# EAGLE library part BME280 (library KwanSystems)
Environment Sensor Measures temperature, absolute pressure, and relative humidity
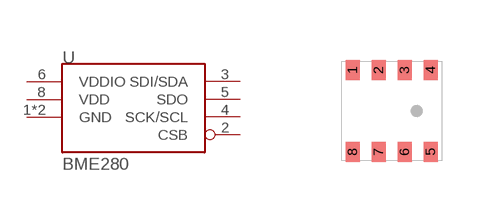
[diagram p48: symbol with the pads of BME280; footprint BME280]

Designator prefix -

## BME280  [BME280]
1  GND  pwr
2  CSB  in
3  SDI/SDA
4  SCK/SCL  in
5  SDO
6  VDDIO  pwr
7  GND  pwr
8  VDD  pwr

## Footprint BME280 (pad centres in mm)
smd 0.35 x 0.5: 1 -0.975,1.025; 2 -0.325,1.025; 3 0.325,1.025; 4 0.975,1.025; 5 0.975,-1.025; 6 0.325,-1.025; 7 -0.325,-1.025; 8 -0.975,-1.025